# Altium schematic symbol library 3.8 - GD32H75Exx.SchLib: 1 symbol
Pins are listed as number, name and electrical type; pins without a type are passive.

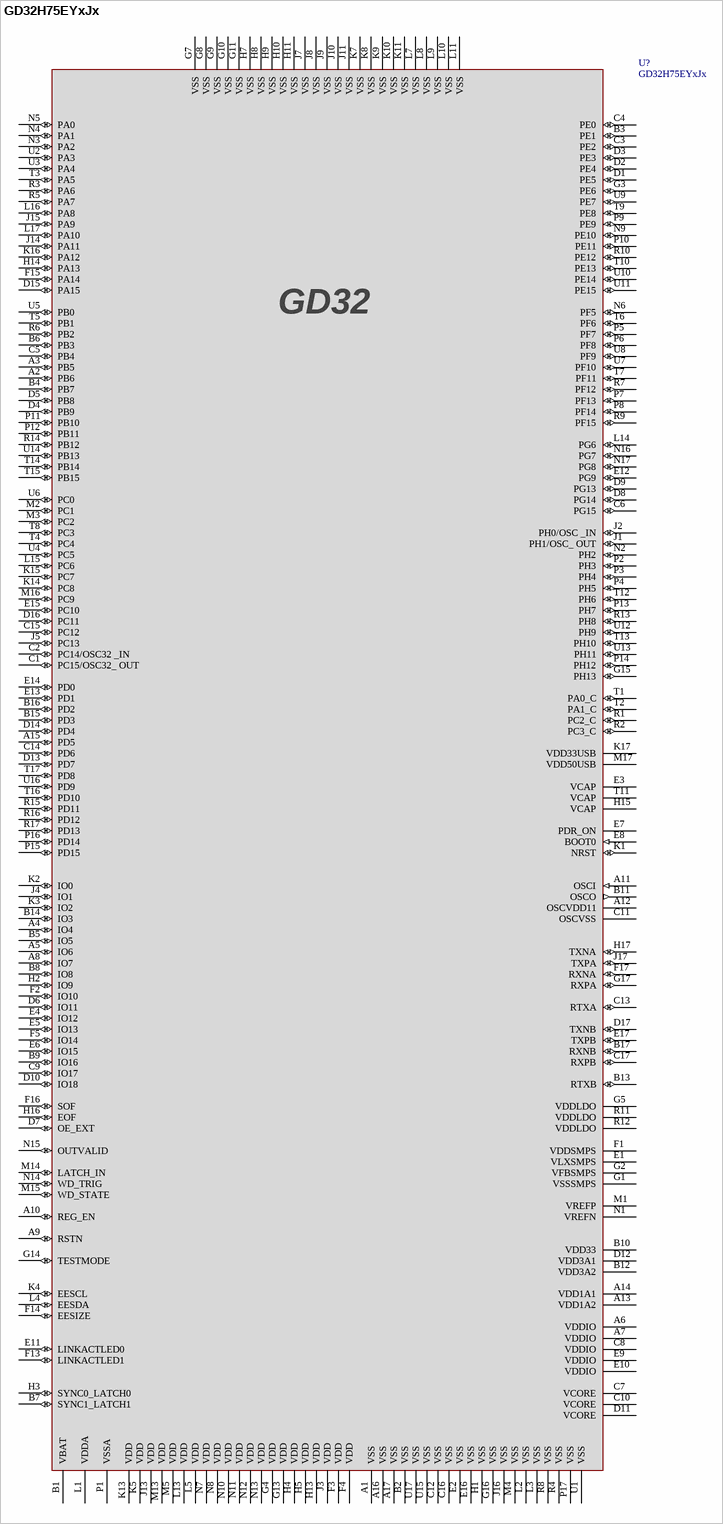
[diagram p0: symbol GD32H75EYxJx]

## GD32H75EYxJx
designator U?
IC
footprint BGA240_14x14x1.07
pins: A1 VSS (power), A2 PB6 (io), A3 PB5 (io), A4 IO4 (io), A5 IO6 (io), A6 VDDIO (power), A7 VDDIO (power), A8 IO7 (io), A9 RSTN (io), A10 REG_EN (io), A11 OSCI (in), A12 OSCVDD11 (power), A13 VDD1A2 (power), A14 VDD1A1 (power), A15 PD5 (io), A16 VSS (power), A17 VSS (power), B1 VBAT (power), B2 VSS (power), B3 PE1 (io), B4 PB7 (io), B5 IO5 (io), B6 PB3 (io), B7 SYNC1_LATCH1 (io), B8 IO8 (io), B9 IO16 (io), B10 VDD33 (power), B11 OSCO (out), B12 VDD3A2 (power), B13 RTXB (io), B14 IO3 (io), B15 PD3 (io), B16 PD2 (io), B17 RXNB (io), C1 PC15/OSC32_ OUT (io), C2 PC14/OSC32 _IN (io), C3 PE2 (io), C4 PE0 (io), C5 PB4 (io), C6 PG15 (io), C7 VCORE (power), C8 VDDIO (power), C9 IO17 (io), C10 VCORE (power), C11 OSCVSS (power), C12 VSS (power), C13 RTXA (io), C14 PD6 (io), C15 PC12 (io), C16 VSS (power), C17 RXPB (io), D1 PE5 (io), D2 PE4 (io), D3 PE3 (io), D4 PB9 (io), D5 PB8 (io), D6 IO11 (io), D7 OE_EXT (io), D8 PG14 (io), D9 PG13 (io), D10 IO18 (io), D11 VCORE (power), D12 VDD3A1 (power), D13 PD7 (io), D14 PD4 (io), D15 PA15 (io), D16 PC11 (io), D17 TXNB (io), E1 VLXSMPS (power), E2 VSS (power), E3 VCAP (power), E4 IO12 (io), E5 IO13 (io), E6 IO15 (io), E7 PDR_ON (power), E8 BOOT0 (in), E9 VDDIO (power), E10 VDDIO (power), E11 LINKACTLED0 (io), E12 PG9 (io), E13 PD1 (io), E14 PD0 (io), E15 PC10 (io), E16 VSS (power), E17 TXPB (io), F1 VDDSMPS (power), F2 IO10 (io), F3 VDD (power), F4 VDD (power), F5 IO14 (io), F13 LINKACTLED1 (io), F14 EESIZE (io), F15 PA14 (io), F16 SOF (io), F17 RXNA (io), G1 VSSSMPS (power), G2 VFBSMPS (power), G3 PE6 (io), G4 VDD (power), G5 VDDLDO (power), G7 VSS (power), G8 VSS (power), G9 VSS (power), G10 VSS (power), G11 VSS (power), G13 VDD (power), G14 TESTMODE (io), G15 PH13 (io), G16 VSS (power), G17 RXPA (io), H1 VSS (power), H2 IO9 (io), H3 SYNC0_LATCH0 (io), H4 VDD (power), H5 VDD (power), H7 VSS (power), H8 VSS (power), H9 VSS (power), H10 VSS (power), H11 VSS (power), H13 VDD (power), H14 PA13 (io), H15 VCAP (power), H16 EOF (io), H17 TXNA (io), J1 PH1/OSC_ OUT (io), J2 PH0/OSC _IN (io), J3 VDD (power), J4 IO1 (io), J5 PC13 (io), J7 VSS (power), J8 VSS (power), J9 VSS (power), J10 VSS (power), J11 VSS (power), J13 VDD (power), J14 PA11 (io), J15 PA9 (io), J16 VSS (power), J17 TXPA (io), K1 NRST (io), K2 IO0 (io), K3 IO2 (io), K4 EESCL (io), K5 VDD (power), K7 VSS (power), K8 VSS (power), K9 VSS (power), K10 VSS (power), K11 VSS (power), K13 VDD (power), K14 PC8 (io), K15 PC7 (io), K16 PA12 (io), K17 VDD33USB (power), L1 VDDA (power), L2 VSS (power), L3 VSS (power), L4 EESDA (io), L5 VDD (power), L7 VSS (power), L8 VSS (power), L9 VSS (power), L10 VSS (power), L11 VSS (power), L13 VDD (power), L14 PG6 (io), L15 PC6 (io), L16 PA8 (io), L17 PA10 (io), M1 VREFP (power), M2 PC1 (io), M3 PC2 (io), M4 VSS (power), M5 VDD (power), M13 VDD (power), M14 LATCH_IN (io), M15 WD_STATE (io), M16 PC9 (io), M17 VDD50USB (power), N1 VREFN (power), N2 PH2 (io), N3 PA2 (io), N4 PA1 (io), N5 PA0 (io), N6 PF5 (io), N7 VDD (power), N8 VDD (power), N9 PE10 (io), N10 VDD (power), N11 VDD (power), N12 VDD (power), N13 VDD (power), N14 WD_TRIG (io), N15 OUTVALID (io), N16 PG7 (io), N17 PG8 (io), P1 VSSA (power), P2 PH3 (io), P3 PH4 (io), P4 PH5 (io), P5 PF7 (io), P6 PF8 (io), P7 PF13 (io), P8 PF14 (io), P9 PE9 (io), P10 PE11 (io), P11 PB10 (io), P12 PB11 (io), P13 PH7 (io), P14 PH12 (io), P15 PD15 (io), P16 PD14 (io), P17 VSS (power), R1 PC2_C (io), R2 PC3_C (io), R3 PA6 (io), R4 VSS (power), R5 PA7 (io), R6 PB2 (io), R7 PF12 (io), R8 VSS (power), R9 PF15 (io), R10 PE12 (io), R11 VDDLDO (power), R12 VDDLDO (power), R13 PH8 (io), R14 PB12 (io), R15 PD11 (io), R16 PD12 (io), R17 PD13 (io), T1 PA0_C (io), T2 PA1_C (io), T3 PA5 (io), T4 PC4 (io), T5 PB1 (io), T6 PF6 (io), T7 PF11 (io), T8 PC3 (io), T9 PE8 (io), T10 PE13 (io), T11 VCAP (power), T12 PH6 (io), T13 PH10 (io), T14 PB14 (io), T15 PB15 (io), T16 PD10 (io), T17 PD8 (io), U1 VSS (power), U2 PA3 (io), U3 PA4 (io), U4 PC5 (io), U5 PB0 (io), U6 PC0 (io), U7 PF10 (io), U8 PF9 (io), U9 PE7 (io), U10 PE14 (io), U11 PE15 (io), U12 PH9 (io), U13 PH11 (io), U14 PB13 (io), U15 VSS (power), U16 PD9 (io), U17 VSS (power)
text: GD32